# Altium schematic symbol library SMA-2.SchLib: 1 symbol
Pins are listed as number, name and electrical type; pins without a type are passive.

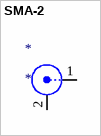
[diagram p0: symbol SMA-2]

## SMA-2
designator *
footprint SMA-2
pins: 1 Signal, 2 GND